# EAGLE library part LRPQ (library minicircuits1)
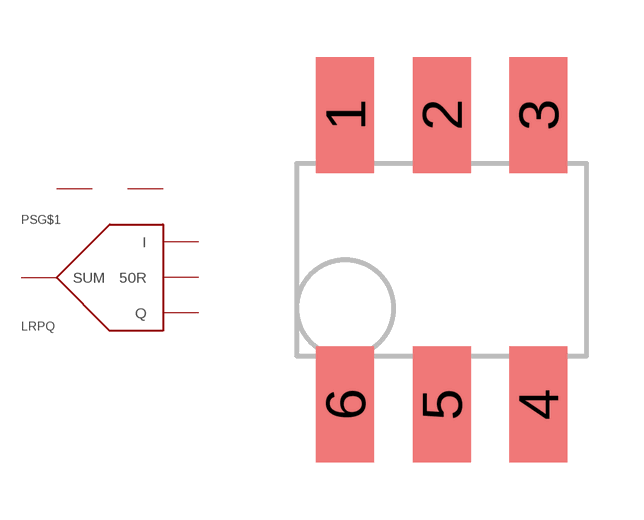
[diagram p7: symbol with the pads of QQQ569; footprint QQQ569]

Designator prefix PS; gates G$1=POWER_SPLITTER-90° G$2=GND G$3=GND

## LRPQ-70J  [QQQ569]
1  G$1:Q
2  G$2:GND  pwr
3  G$1:50R
4  G$1:I
5  G$3:GND  pwr
6  G$1:SUM

## Footprint QQQ569 (pad centres in mm)
smd 1.524 x 3.048: 1 -2.54,3.81; 2 0,3.81; 3 2.54,3.81; 4 2.54,-3.81; 5 0,-3.81; 6 -2.54,-3.81